# EAGLE library part CY8C5868LTI-LP039 (library CY8C5868LTI-LP039)
ARM Microcontrollers - MCU 256K Flash 64K SRAM PSoC 5LP Source: Datasheet <https://www.infineon.com/dgdl/Infineon-PSoC_5LP_CY8C58LP_Family_Datasheet_Programmable_System-on-Chip_(PSoC_)-DataSheet-v15_00-EN.pdf?fileId=8ac78c8c7d0d8da4017d0ec547013ab9>
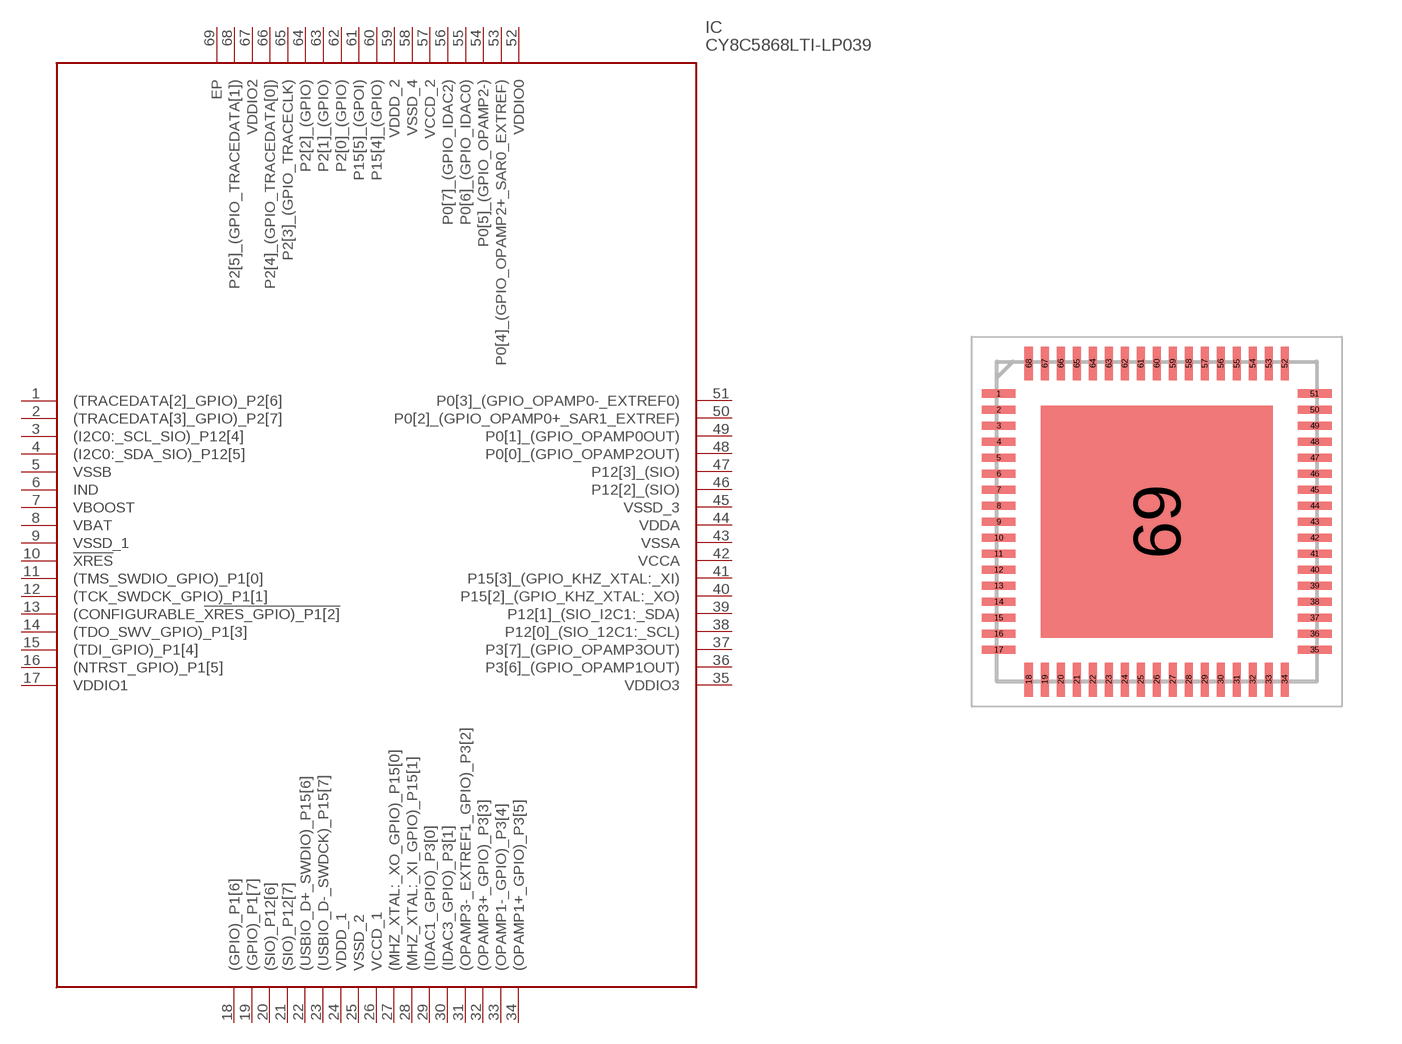
[diagram p0: symbol with the pads of QFN40P800X800X100-69N; footprint QFN40P800X800X100-69N]

Designator prefix IC

## CY8C5868LTI-LP039 (Arrow_Part_Number: CY8C5868LTI-LP039; Arrow_Price-Stock: https://www.arrow.com/en/products/cy8c5868lti-lp039/infineon-technologies-ag?utm_currency=USD&region=nac; Description: ARM Microcontrollers - MCU 256K Flash 64K SRAM PSoC 5LP; Height: 1mm; Manufacturer_Name: Infineon; Manufacturer_Part_Number: CY8C5868LTI-LP039; Mouser_Part_Number: 727-CY8C5868LTILP039; Mouser_Price-Stock: https://www.mouser.co.uk/ProductDetail/Infineon-Technologies/CY8C5868LTI-LP039?qs=hC%252B8fpRoqiKQur3BdPWdWw%3D%3D)  [QFN40P800X800X100-69N]
1  (TRACEDATA[2]_GPIO)_P2[6]
2  (TRACEDATA[3]_GPIO)_P2[7]
3  (I2C0:_SCL_SIO)_P12[4]
4  (I2C0:_SDA_SIO)_P12[5]
5  VSSB
6  IND
7  VBOOST
8  VBAT
9  VSSD_1
10  !XRES
11  (TMS_SWDIO_GPIO)_P1[0]
12  (TCK_SWDCK_GPIO)_P1[1]
13  (CONFIGURABLE_!XRES_GPIO)_P1[2]
14  (TDO_SWV_GPIO)_P1[3]
15  (TDI_GPIO)_P1[4]
16  (NTRST_GPIO)_P1[5]
17  VDDIO1
18  (GPIO)_P1[6]
19  (GPIO)_P1[7]
20  (SIO)_P12[6]
21  (SIO)_P12[7]
22  (USBIO_D+_SWDIO)_P15[6]
23  (USBIO_D-_SWDCK)_P15[7]
24  VDDD_1
25  VSSD_2
26  VCCD_1
27  (MHZ_XTAL:_XO_GPIO)_P15[0]
28  (MHZ_XTAL:_XI_GPIO)_P15[1]
29  (IDAC1_GPIO)_P3[0]
30  (IDAC3_GPIO)_P3[1]
31  (OPAMP3-_EXTREF1_GPIO)_P3[2]
32  (OPAMP3+_GPIO)_P3[3]
33  (OPAMP1-_GPIO)_P3[4]
34  (OPAMP1+_GPIO)_P3[5]
35  VDDIO3
36  P3[6]_(GPIO_OPAMP1OUT)
37  P3[7]_(GPIO_OPAMP3OUT)
38  P12[0]_(SIO_12C1:_SCL)
39  P12[1]_(SIO_I2C1:_SDA)
40  P15[2]_(GPIO_KHZ_XTAL:_XO)
41  P15[3]_(GPIO_KHZ_XTAL:_XI)
42  VCCA
43  VSSA
44  VDDA
45  VSSD_3
46  P12[2]_(SIO)
47  P12[3]_(SIO)
48  P0[0]_(GPIO_OPAMP2OUT)
49  P0[1]_(GPIO_OPAMP0OUT)
50  P0[2]_(GPIO_OPAMP0+_SAR1_EXTREF)
51  P0[3]_(GPIO_OPAMP0-_EXTREF0)
52  VDDIO0
53  P0[4]_(GPIO_OPAMP2+_SAR0_EXTREF)
54  P0[5]_(GPIO_OPAMP2-)
55  P0[6]_(GPIO_IDAC0)
56  P0[7]_(GPIO_IDAC2)
57  VCCD_2
58  VSSD_4
59  VDDD_2
60  P15[4]_(GPIO)
61  P15[5]_(GPOI)
62  P2[0]_(GPIO)
63  P2[1]_(GPIO)
64  P2[2]_(GPIO)
65  P2[3]_(GPIO_TRACECLK)
66  P2[4]_(GPIO_TRACEDATA[0])
67  VDDIO2
68  P2[5]_(GPIO_TRACEDATA[1])
69  EP

## Footprint QFN40P800X800X100-69N (pad centres in mm)
68-Pin QFN-1
smd 0.85 x 0.2: 1 -3.95,3.2; 2 -3.95,2.8; 3 -3.95,2.4; 4 -3.95,2; 5 -3.95,1.6; 6 -3.95,1.2; 7 -3.95,0.8; 8 -3.95,0.4; 9 -3.95,0; 10 -3.95,-0.4; 11 -3.95,-0.8; 12 -3.95,-1.2; 13 -3.95,-1.6; 14 -3.95,-2; 15 -3.95,-2.4; 16 -3.95,-2.8; 17 -3.95,-3.2; 35 3.95,-3.2; 36 3.95,-2.8; 37 3.95,-2.4; 38 3.95,-2; 39 3.95,-1.6; 40 3.95,-1.2; 41 3.95,-0.8; 42 3.95,-0.4; 43 3.95,0; 44 3.95,0.4; 45 3.95,0.8; 46 3.95,1.2; 47 3.95,1.6; 48 3.95,2; 49 3.95,2.4; 50 3.95,2.8; 51 3.95,3.2
smd 0.2 x 0.85: 18 -3.2,-3.95; 19 -2.8,-3.95; 20 -2.4,-3.95; 21 -2,-3.95; 22 -1.6,-3.95; 23 -1.2,-3.95; 24 -0.8,-3.95; 25 -0.4,-3.95; 26 0,-3.95; 27 0.4,-3.95; 28 0.8,-3.95; 29 1.2,-3.95; 30 1.6,-3.95; 31 2,-3.95; 32 2.4,-3.95; 33 2.8,-3.95; 34 3.2,-3.95; 52 3.2,3.95; 53 2.8,3.95; 54 2.4,3.95; 55 2,3.95; 56 1.6,3.95; 57 1.2,3.95; 58 0.8,3.95; 59 0.4,3.95; 60 0,3.95; 61 -0.4,3.95; 62 -0.8,3.95; 63 -1.2,3.95; 64 -1.6,3.95; 65 -2,3.95; 66 -2.4,3.95; 67 -2.8,3.95; 68 -3.2,3.95
smd 5.8 x 5.8: 69 0,0